# Altium footprint library ThrusterBoard21.PcbLib: 15 footprints
Each footprint in its own frame and in the unit in brackets; x right, y up, seen from the top. Pads: shape width x height; smd on the part's side, far side on the other; paste and mask are expansions set on the pad; w line width, h text height; cw(c..) or ccw(c..) is an arc to the next point about the centre after c.
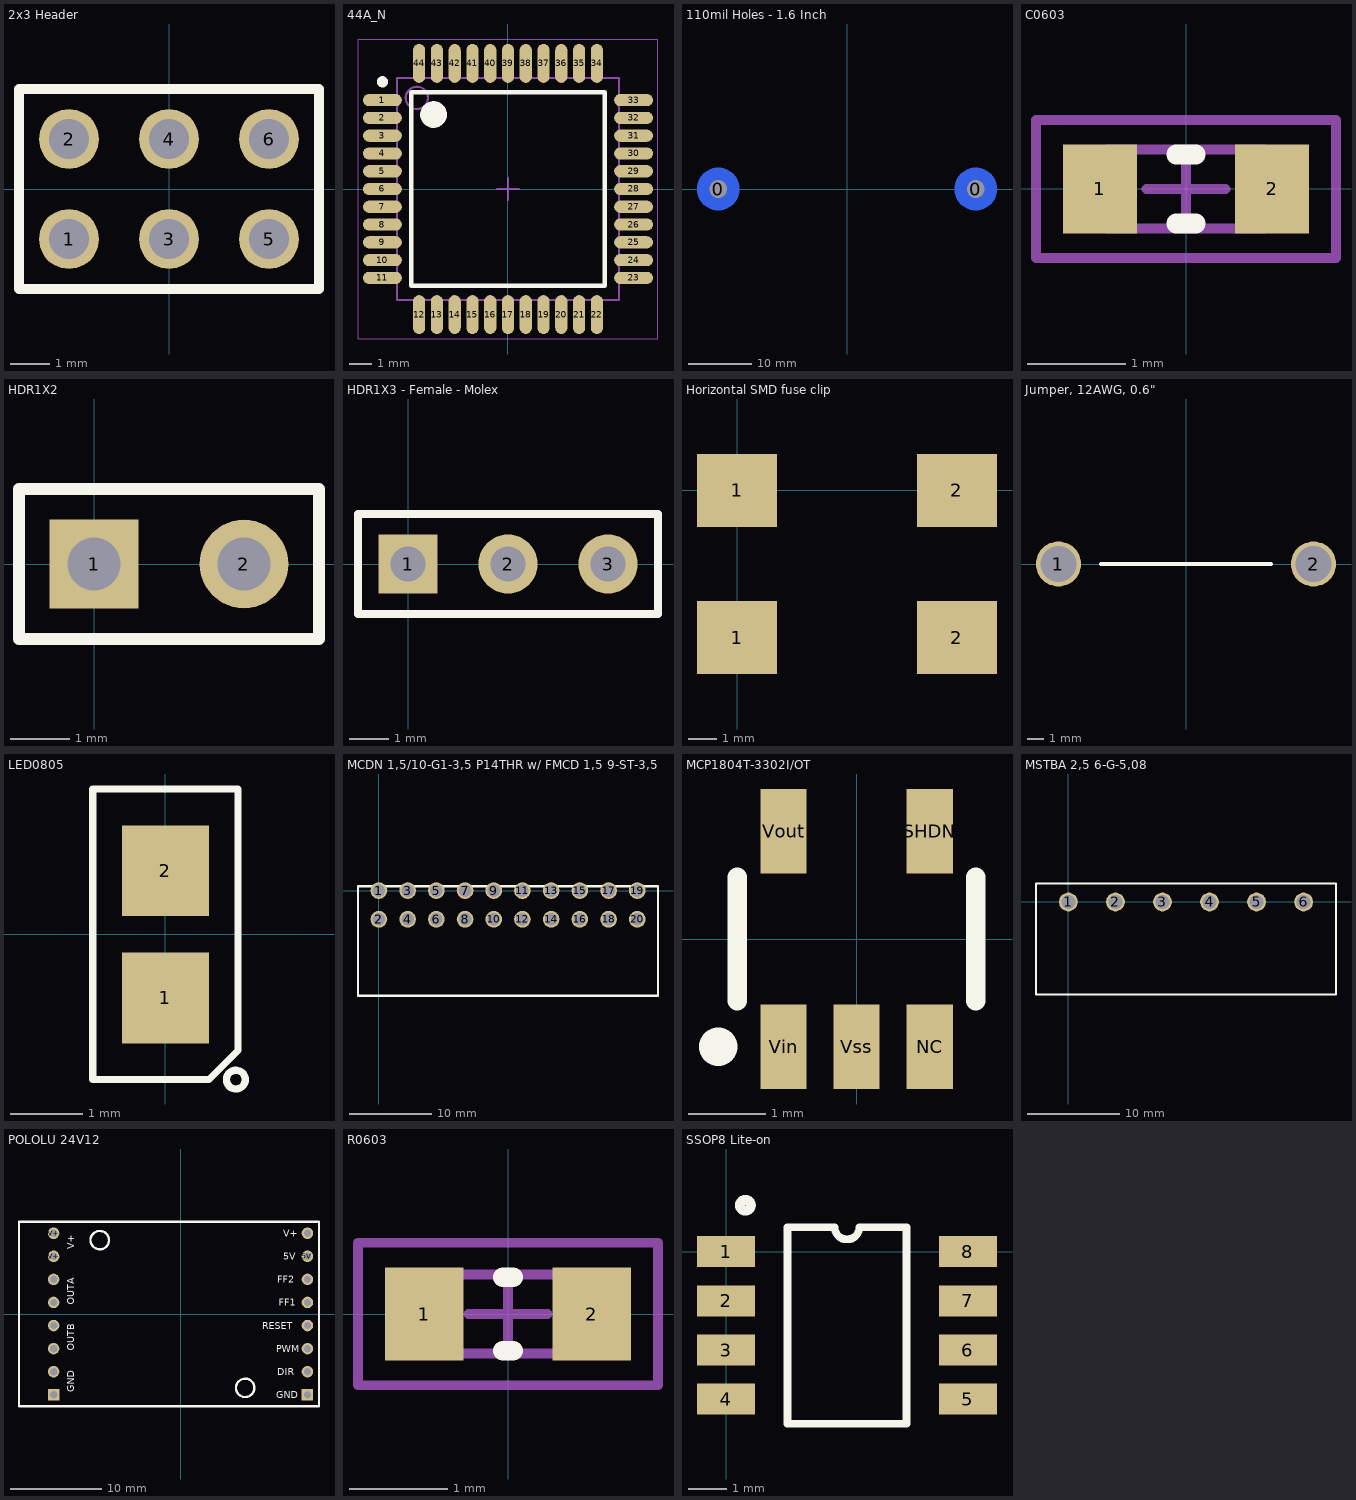
[diagram p0: the footprints below, top view; thin cyan lines are the x and y axes]

## 2x3 Header [mil]
pads (6):
  round 60 hole 40: 1(-100,-50) 2(-100,50) 3(0,-50) 4(0,50) 5(100,-50) 6(100,50)
Top Overlay:
  lines w10: -150,-100 150,-100 150,100 -150,100 -150,-100
3D body "Pin Header 1x3 TH Pitch 2.54mm.stp": height 373.85, standoff -125.98, extent -150,-100 150,0
3D body "Pin Header 1x3 TH Pitch 2.54mm.stp": height 373.85, standoff -125.98, extent -150,0 150,100

## 44A_N [mm] "Thin QFP, 44-Leads, Body 10x10mm, Pitch 0.8mm, IPC Medium Density"
height 1.2
pads (44):
  oval 1.75x0.55 smd: 1(-5.65,4) 2(-5.65,3.2) 3(-5.65,2.4) 4(-5.65,1.6) 5(-5.65,0.8) 6(-5.65,0) 7(-5.65,-0.8) 8(-5.65,-1.6) 9(-5.65,-2.4) 10(-5.65,-3.2) 11(-5.65,-4) 23(5.65,-4) 24(5.65,-3.2) 25(5.65,-2.4) 26(5.65,-1.6) 27(5.65,-0.8) 28(5.65,0) 29(5.65,0.8) 30(5.65,1.6) 31(5.65,2.4) 32(5.65,3.2) 33(5.65,4)
  oval 0.55x1.75 smd: 12(-4,-5.65) 13(-3.2,-5.65) 14(-2.4,-5.65) 15(-1.6,-5.65) 16(-0.8,-5.65) 17(0,-5.65) 18(0.8,-5.65) 19(1.6,-5.65) 20(2.4,-5.65) 21(3.2,-5.65) 22(4,-5.65) 34(4,5.65) 35(3.2,5.65) 36(2.4,5.65) 37(1.6,5.65) 38(0.8,5.65) 39(0,5.65) 40(-0.8,5.65) 41(-1.6,5.65) 42(-2.4,5.65) 43(-3.2,5.65) 44(-4,5.65)
Top Overlay:
  circle w0.6: c-3.35,3.35 r0.3
  circle w0.25: c-5.65,4.825 r0.125
  lines w0.2: -4.35,-4.35 4.35,-4.35 4.35,4.35 -4.35,4.35 -4.35,-4.35
Mechanical 13:
  circle w0.1: c-4.1,4.1 r0.5
  lines w0.1: -5,-5 5,-5 5,5 -5,5 -5,-5
Mechanical 15:
  lines w0.05: -6.75,-6.75 6.75,-6.75 6.75,6.75 -6.75,6.75 -6.75,-6.75
  lines w0.1: -0.5,0 0.5,0 ; 0,-0.5 0,0.5
3D body: height 1.2, standoff 0, extent -5,-5 5,5

## 110mil Holes - 1.6 Inch [mil]
pads (4):
  round 0 hole 110: 0(-800,0) 0(800,0)
  round 264 smd far side mask+0: 0(-800,0) 0(800,0)

## C0603 [mm] "Chip Capacitor, 2-Leads, Body 1.6x0.8mm, IPC Medium Density"
height 0.6
pads (2):
  rect 0.75x0.9 smd: 1(-0.875,0) 2(0.875,0)
Top Overlay:
  lines w0.2: -0.1,-0.35 0.1,-0.35 ; -0.1,0.35 0.1,0.35
Mechanical 13:
  lines w0.1: -0.8,-0.4 0.8,-0.4 0.8,0.4 -0.8,0.4 -0.8,-0.4
Mechanical 15:
  lines w0.1: -0.4,0 0.4,0 ; 0,-0.4 0,0.4 ; -1.525,-0.7 1.525,-0.7 1.525,0.7 -1.525,0.7 -1.525,-0.7
3D body: height 0.6, standoff 0, extent -0.8,-0.4 0.8,0.4

## HDR1X2 [mm] "Connector; Header; 2 Position"
pads (2):
  rect 1.5x1.5 hole 0.9: 1(0,0)
  round 1.5 hole 0.9: 2(2.54,0)
Top Overlay:
  lines w0.2: -1.27,-1.27 3.81,-1.27 3.81,1.27 -1.27,1.27 -1.27,-1.27

## HDR1X3 - Female - Molex [mm] "Connector; Header; 3 Position"
pads (3):
  rect 1.5x1.5 hole 0.9: 1(0,0)
  round 1.5 hole 0.9: 2(2.54,0) 3(5.08,0)
Top Overlay:
  lines w0.2: -1.27,-1.27 6.35,-1.27 6.35,1.27 -1.27,1.27 -1.27,-1.27
3D body "901471103.stp": height 8.55, standoff -2.85, extent -1.27,-1.27 6.35,1.27

## Horizontal SMD fuse clip [mil] "Fuse clip assembly for automotive fuses"
height 165
pads (4):
  rect 110x100 smd: 1(0,-202) 1(0,0) 2(302,-202) 2(302,0)
3D body "PN3569TR - Horizontal Automotive Fuse Clip, SMD.STEP": height 124.96, standoff 0, extent -78,-259 78,53
3D body "PN3569TR - Horizontal Automotive Fuse Clip, SMD.STEP": height 124.96, standoff 0, extent 224,-259 380,53
3D body "Fusibile Lama MINI Type 1.stp": height 149.8, standoff 0.2, extent -59.56,-611.45 369.57,30.28

## Jumper, 12AWG, 0.6" [mm]
pads (2):
  round 2.687 hole 2.179: 1(-7.62,0) 2(7.62,0)
Top Overlay:
  lines w0.254: -5.08,0 5.08,0

## LED0805 [mm] "0805 LED"
height 1
pads (2):
  rect 1.2x1.25 smd: 1(0,-0.875) 2(0,0.875)
Top Overlay:
  circle w0.1: c0.971,-2 r0.129
  lines w0.1: -1,-2 -1,2 1,2 1,-1.6 0.6,-2 -1,-2

## MCDN 1,5/10-G1-3,5 P14THR w/ FMCD 1,5 9-ST-3,5 [mm] "Header, Male, Dual Row, 9 Position, Horizontal w/ FMCD 1,5 9-ST-3,5"
height 8.6
pads (20):
  round 2.035 hole 1.527: 1(0,0) 2(0,-3.5) 3(3.5,0) 4(3.5,-3.5) 5(7,0) 6(7,-3.5) 7(10.5,0) 8(10.5,-3.5) 9(14,0) 10(14,-3.5) 11(17.5,0) 12(17.5,-3.5) 13(21,0) 14(21,-3.5) 15(24.5,0) 16(24.5,-3.5) 17(28,0) 18(28,-3.5) 19(31.5,0) 20(31.5,-3.5)
Top Overlay:
  lines w0.254: -2.55,-12.825 34.025,-12.825 34.025,0.525 -2.55,0.525 -2.55,-12.825
3D body "1738872 Horizontal Dual 9 Pos Cable Housing with Spring Loaded Contacts - FMCD 1,5 9-ST-3,5.stp": height 16.09, standoff 0.09, extent -2.15,-29.475 30.1,-6.575
3D body "1953994 Horizontal Dual 10 Pos Male PCB Connector.stp": height 15.28, standoff -1.32, extent -2.425,-12.8 33.975,0.6

## MCP1804T-3302I/OT [mm] "SOT-23"
height 1.3
pads (5):
  rect 0.6x1.1 smd: NC(0.95,-1.4) SHDN(0.95,1.4) Vin(-0.95,-1.4) Vout(-0.95,1.4) Vss(0,-1.4)
Top Overlay:
  circle w0.5: c-1.8,-1.4 r0
  lines w0.254: -1.55,-0.8 -1.55,0.8 ; 1.55,-0.8 1.55,0.8
3D body "SOT23_5.stp": height 0.92, standoff 0.01, extent -1.499,-1.628 1.501,1.577

## MSTBA 2,5 6-G-5,08 [mm] "Header, Male, 6 Pin, 90deg"
height 8.6
pads (6):
  round 2.03 hole 1.53: 1(0,0) 2(5.08,0) 3(10.16,0) 4(15.24,0) 5(20.32,0) 6(25.4,0)
Top Overlay:
  lines w0.254: -3.5,-10 -3.5,2 28.9,2 28.9,-10 -3.5,-10
3D body "1757284 Horizontal 6 Pin Male PCB Connector - MSTBA 2,5 6-G-5,08.stp": height 8.6, standoff -3.5, extent -3.525,-10.001 28.955,2.001

## POLOLU 24V12 [mil] "Pololu 24v12 Motor Driver"
height 500
pads (16):
  round 50 hole 32: 5V(550,250) DIR(550,-250) FF1(550,50) FF2(550,150) GND(-550,-250) OUTA(-550,50) OUTA(-550,150) OUTB(-550,-150) OUTB(-550,-50) PWM(550,-150) RESET(550,-50) V+(-550,250) V+(-550,350) V+_SENSE(550,350)
  rect 50x50 hole 32: GND(-550,-350) GND(550,-350)
Top Overlay:
  circle w10: c-350,320 r40
  circle w10: c280,-320 r40
  lines w10: -700,-400 -700,400 600,400 600,-400 -700,-400
  text "GND" at 415,-365 h30
  text "DIR" at 420,-265 h30
  text "PWM" at 415,-165 h30
  text "RESET" at 355,-65 h30
  text "FF1" at 425,35 h30
  text "FF2" at 420,135 h30
  text "5V" at 445,235 h30
  text "V+" at 445,335 h30
  text "V+" at -460,280 h30
  text "OUTA" at -460,40 h30
  text "OUTB" at -460,-160 h30
  text "GND" at -460,-340 h30
3D body: height 800, standoff 0, extent -389.68,280.09 -309.99,359.93
3D body: height 800, standoff 0, extent 240.32,-359.91 320.01,-280.07
3D body: height 494, standoff 443, extent -700,-400 600,400
3D body: height 905.51, standoff 511.81, extent -193.7,-354.33 200,354.33
3D body: height 433.07, standoff 0, extent 490,-400 600,400
3D body: height 433.07, standoff 0, extent -610,-400 -500,400

## R0603 [mm] "Chip Resistor, 2-Leads, Body 1.5x0.8mm, IPC Medium Density"
height 0.45
pads (2):
  rect 0.8x0.95 smd: 1(-0.85,0) 2(0.85,0)
Top Overlay:
  lines w0.2: -0.05,-0.375 0.05,-0.375 ; -0.05,0.375 0.05,0.375
Mechanical 13:
  lines w0.1: -0.775,-0.4 0.775,-0.4 0.775,0.4 -0.775,0.4 -0.775,-0.4
Mechanical 15:
  lines w0.1: -0.4,0 0.4,0 ; 0,-0.4 0,0.4 ; -1.525,-0.725 1.525,-0.725 1.525,0.725 -1.525,0.725 -1.525,-0.725
3D body: height 0.45, standoff 0, extent -0.775,-0.4 0.775,0.4

## SSOP8 Lite-on [mm]
pads (8):
  rect 1.5x0.8 smd: 1(0,0) 2(0,-1.27) 3(0,-2.54) 4(0,-3.81) 5(6.25,-3.81) 6(6.25,-2.54) 7(6.25,-1.27) 8(6.25,0)
Top Overlay:
  circle w0.254: c0.5,1.2 r0.141
  lines w0.2: 1.585,-4.445 4.665,-4.445 4.665,0.635 3.443,0.635 cw(c3.125,0.635) 2.808,0.635 1.585,0.635 1.585,-4.445
3D body "SOIC08 narrow.stp": height 2, standoff 0, extent 0.018,-4.4 6.182,0.6